# EAGLE library part MSGEQ7 (library msgeq7)
7-band graphic equalizer
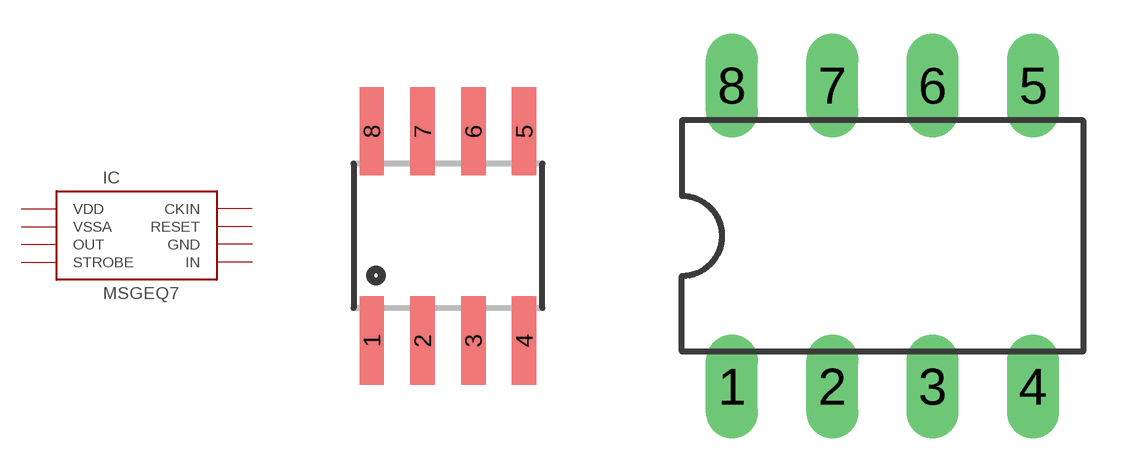
[diagram p0: symbol with the pads of SOIC8; footprints SOIC8, DIL08]

Designator prefix IC

## MSGEQ7SOIC  [SOIC8]
1  VDD  in
2  GND
3  DCOUT  ?
4  STROBE  in
5  AUDIO_IN  ?
6  CG  ?
7  RESET
8  CKIN

## MSGEQ7DIP  [DIL08]
1  VDD  in
2  IN
3  CKIN
4  OUT  in
5  VSSA  in
6  GND
7  STROBE  in
8  RESET

## Footprint SOIC8 (pad centres in mm)
smd 0.61 x 2.21: 1 -1.905,-2.616; 2 -0.635,-2.616; 3 0.635,-2.616; 4 1.905,-2.616; 5 1.905,2.616; 6 0.635,2.616; 7 -0.635,2.616; 8 -1.905,2.616

## Footprint DIL08 (pad centres in mm)
Dual In Line Package
drill 0.813 long: 1 -3.81,-3.81; 2 -1.27,-3.81; 3 1.27,-3.81; 4 3.81,-3.81; 5 3.81,3.81; 6 1.27,3.81; 7 -1.27,3.81; 8 -3.81,3.81